# Altium schematic symbol library Schematic_IC_ADC.SchLib: 1 symbol
Pins are listed as number, name and electrical type; pins without a type are passive.

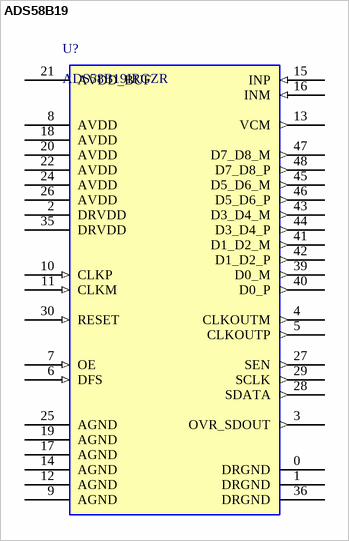
[diagram p0: symbol ADS58B19]

## ADS58B19
designator U?, comment ADS58B19IRGZR
IC ADC 9BIT 250MSPS 48VQFN; Manufacturer 1: Texas Instruments; Interface: LVDS,Parallel; Number of Bits: 9; Sampling Rate: 250000000S/s; Number of A/D Converters: 1; Max Power Dissipation: 10mW; Resolution: 14b; Supply Type: Analog,Digital; Conversion Rate: 200MS/s; Signal to Noise Ratio (SNR): 66dB; Power Consumption: 287mW; Min Supply Voltage: 1.7V; Integral Nonlinearity (INL): 1.2LSB; Max Supply Voltage: 1.9V; Supplier 1: Avnet; Manufacturer Part Number 1: ADS58B19IRGZR; Stock 1: 0; Pricing 1: 2500=18.64732, 5000=17.74585, 10000=17.15354, 15000=16.57806, 25000=16.12046 (USD); RoHS: Yes; Mount: Surface Mount; Case/Package: VQFN; Number of Pins: 48; Contact Plating: Gold; Min Operating Temperature: -40°C; Max Operating Temperature: 85°C; Package Quantity: 2500; Packaging: Tape and Reel; Number of Channels: 1; Number of Converters: 1; Number of Analog Inputs: 1; Power Dissipation: 287mW; Number of Inputs: 1; Lead Free: Lead Free; ComponentLink1URL: https://datasheet.ciiva.com/1309/ads58b19-1309668.pdf?src-supplier=Digi-Key; ComponentLink1Description: https://datasheet.ciiva.com/1309/ads58b19-1309668.pdf?src-supplier=Digi-Key; ComponentLink2URL: https://datasheet.ciiva.com/14259/sbas487d-14259703.pdf?src-supplier=Avnet; ComponentLink2Description: https://datasheet.ciiva.com/14259/sbas487d-14259703.pdf?src-supplier=Avnet
footprint QFN50P700X700X100-48L_HS510X510 (QFN, 48-Leads, Body 7.00x7.00mm, Pitch 0.50mm, Thermal Pad 5.10x5.10mm, IPC High Density)
pins: 0 DRGND (power), 1 DRGND (power), 2 DRVDD (power), 3 OVR_SDOUT (out), 4 CLKOUTM (out), 5 CLKOUTP (out), 6 DFS (in), 7 OE (in), 8 AVDD (power), 9 AGND (power), 10 CLKP (in), 11 CLKM (in), 12 AGND (power), 13 VCM (out), 14 AGND (power), 15 INP (in), 16 INM (in), 17 AGND (power), 18 AVDD (power), 19 AGND (power), 20 AVDD (power), 21 AVDD_BUF (power), 22 AVDD (power), 24 AVDD (power), 25 AGND (power), 26 AVDD (power), 27 SEN (out), 28 SDATA (out), 29 SCLK (out), 30 RESET (in), 35 DRVDD (power), 36 DRGND (power), 39 D0_M (out), 40 D0_P (out), 41 D1_D2_M (out), 42 D1_D2_P (out), 43 D3_D4_M (out), 44 D3_D4_P (out), 45 D5_D6_M (out), 46 D5_D6_P (out), 47 D7_D8_M (out), 48 D7_D8_P (out)